# Altium footprint library WR-USB.PcbLib: 52 footprints (part 1 of 4)
Each footprint in its own frame and in the unit in brackets; x right, y up, seen from the top. Pads: shape width x height; smd on the part's side, far side on the other; paste and mask are expansions set on the pad; w line width, h text height; cw(c..) or ccw(c..) is an arc to the next point about the centre after c.
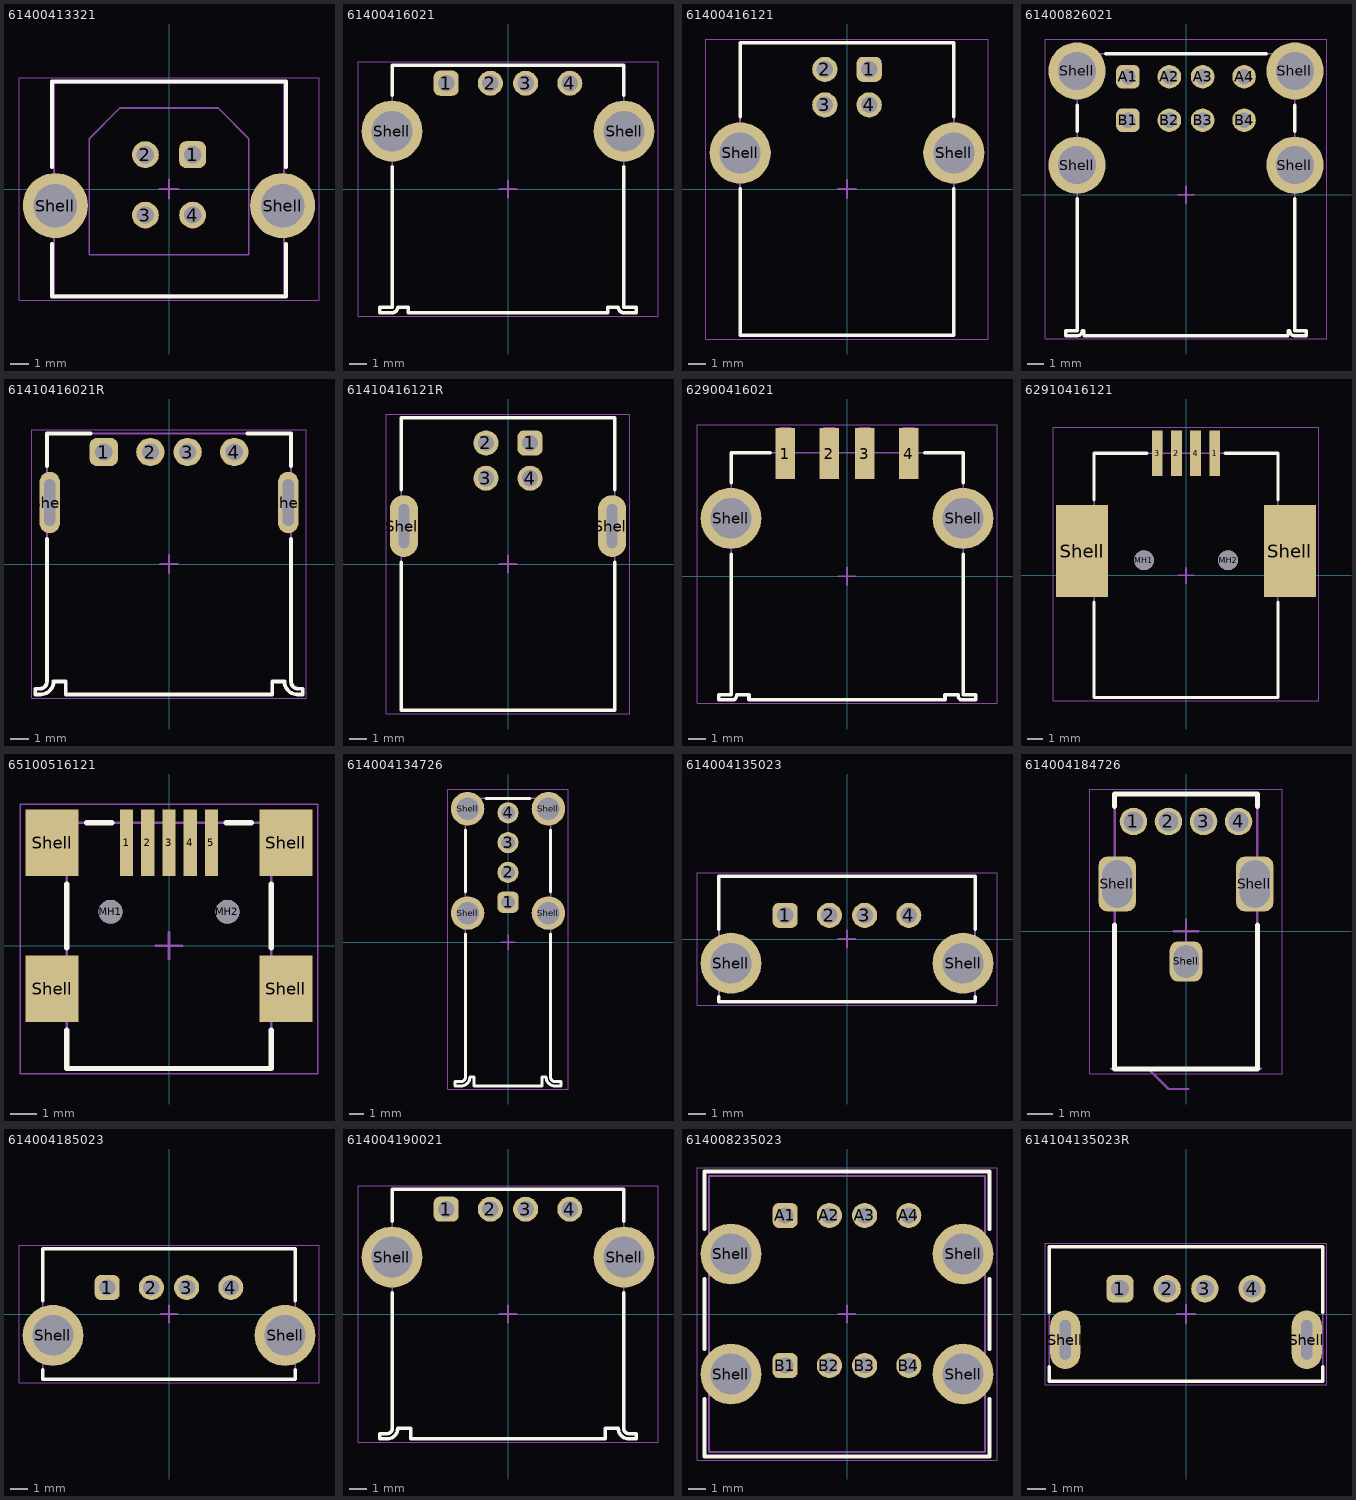
[diagram p0: the footprints below, top view; thin cyan lines are the x and y axes]

## 61400413321 [mm] "USB 2.0 Type B Vertical"
height 16.1
pads (6):
  rrect50% 1.42x1.42 hole 0.92: 1(1.25,1.82)
  round 1.42 hole 0.92: 2(-1.25,1.82) 3(-1.25,-1.38) 4(1.25,-1.38)
  round 3.45 hole 2.3: Shell(-6.02,-0.88) Shell(6.02,-0.88)
Top Overlay:
  lines w0.2: -6.2,-2.91 -6.2,-5.7 6.2,-5.7 6.2,-2.91 ; -6.2,1.15 -6.2,5.7 6.2,5.7 6.2,1.15
Top Assembly:
  lines w0.1: -6.1,-5.6 -6.1,5.6 6.1,5.6 6.1,-5.6 -6.1,-5.6 ; -4.225,-3.48 -4.225,2.67 -2.595,4.3 2.595,4.3 4.225,2.67 4.225,-3.48 -4.225,-3.48
Top Designator:
  text ".Designator" at -3.647,-0.357 h1
Top 3D Body:
  lines w0.1: -6.1,-5.6 -6.1,5.6 6.1,5.6 6.1,-5.6 -6.1,-5.6
Top Courtyard:
  lines w0.05: -7.945,-5.9 7.945,-5.9 7.945,5.9 -7.945,5.9 -7.945,-5.9
Top Component Center:
  lines w0.1: -0.5,0 0.5,0 ; 0,-0.5 0,0.5
3D body "61400413321.stp": height 16.2, standoff -4.12, extent -7.35,-5.6 7.35,5.6

## 61400416021 [mm] "USB 2.0 Type A Horizontal"
height 6.9
pads (6):
  rrect50% 1.42x1.42 hole 0.92: 1(-3.5,5.99)
  round 1.42 hole 0.92: 2(-1,5.99) 3(1,5.99) 4(3.5,5.99)
  round 3.45 hole 2.3: Shell(-6.57,3.28) Shell(6.57,3.28)
Top Overlay:
  lines w0.2: -6.55,1.26 -6.55,-6.7 -7.25,-6.7 -7.25,-7 -6.56,-7 ccw(c-6.55,-6.7) -6.25,-6.7 -5.65,-6.7 -5.65,-7 5.65,-7 5.65,-6.7 6.25,-6.7 ccw(c6.55,-6.7) 6.56,-7 7.25,-7 7.25,-6.7 6.55,-6.7 6.55,1.26 ; -6.55,5.3 -6.55,7 6.55,7 6.55,5.3
Assembly Notes:
  lines w0.1: -5.65,-7 5.65,-7
  text "PCB Edge" at -2.2,-8.22 h0.81
Top Assembly:
  lines w0.1: -7.25,-7 -7.25,-6.7 -6.55,-6.7 -6.55,7 6.55,7 6.55,-6.7 7.25,-6.7 7.25,-7 6.56,-7 cw(c6.55,-6.7) 6.25,-6.7 5.65,-6.7 5.65,-7 -5.65,-7 -5.65,-6.7 -6.25,-6.7 cw(c-6.55,-6.7) -6.56,-7 -7.25,-7
Top Designator:
  text ".Designator" at -3.647,-0.357 h1
Top 3D Body:
  lines w0.1: -7.25,-7 -7.25,-6.7 -6.55,-6.7 -6.55,7 6.55,7 6.55,-6.7 7.25,-6.7 7.25,-7 6.56,-7 cw(c6.55,-6.7) 6.25,-6.7 5.65,-6.7 5.65,-7 -5.65,-7 -5.65,-6.7 -6.25,-6.7 cw(c-6.55,-6.7) -6.56,-7 -7.25,-7
Top Courtyard:
  lines w0.05: -8.495,-7.2 8.495,-7.2 8.495,7.2 -8.495,7.2 -8.495,-7.2
Top Component Center:
  lines w0.1: -0.5,0 0.5,0 ; 0,-0.5 0,0.5
3D body "61400416021.stp": height 7.63, standoff -4.06, extent -7.999,-7 7.999,7

## 61400416121 [mm] "USB 2.0 Type B Horizontal"
height 11.05
pads (6):
  rrect50% 1.42x1.42 hole 0.92: 1(1.25,6.74)
  round 1.42 hole 0.92: 2(-1.25,6.74) 3(-1.25,4.74) 4(1.25,4.74)
  round 3.45 hole 2.3: Shell(-6.02,2.03) Shell(6.02,2.03)
Top Overlay:
  lines w0.2: -6.02,0 -6.02,-8.25 6.02,-8.25 6.02,0 ; -6.02,4.06 -6.02,8.25 6.02,8.25 6.02,4.06
Top Assembly:
  lines w0.1: -6.02,-8.25 6.02,-8.25 6.02,8.25 -6.02,8.25 -6.02,-8.25
Top Designator:
  text ".Designator" at -3.647,-0.357 h1
Top 3D Body:
  lines w0.1: -6.02,-8.25 6.02,-8.25 6.02,8.25 -6.02,8.25 -6.02,-8.25
Top Courtyard:
  lines w0.05: -7.945,-8.45 -7.945,8.45 7.945,8.45 7.945,-8.45 -7.945,-8.45
Top Component Center:
  lines w0.1: -0.5,0 0.5,0 ; 0,-0.5 0,0.5
3D body "61400416121.stp": height 11.15, standoff -3.71, extent -7.484,-8.25 7.484,8.25

## 61400826021 [mm] "USB 2.0 Type A Horizontal Dual Stacked"
height 15.34
pads (12):
  rrect50% 1.42x1.42 hole 0.92: A1(-3.5,7.11) B1(-3.5,4.49)
  round 1.42 hole 0.92: A2(-1,7.11) A3(1,7.11) A4(3.5,7.11) B2(-1,4.49) B3(1,4.49) B4(3.5,4.49)
  round 3.45 hole 2.3: Shell(-6.57,1.78) Shell(-6.57,7.46) Shell(6.57,1.78) Shell(6.57,7.46)
Top Overlay:
  lines w0.2: -6.55,-0.25 -6.55,-8.2 -7.25,-8.2 -7.25,-8.5 -6.56,-8.5 ccw(c-6.55,-8.2) -6.25,-8.2 -6.15,-8.2 -6.15,-8.5 6.15,-8.5 6.15,-8.2 6.25,-8.2 ccw(c6.55,-8.2) 6.56,-8.5 7.25,-8.5 7.25,-8.2 6.55,-8.2 6.55,-0.25 ; -6.55,3.81 -6.55,5.4 ; -4.85,8.5 4.85,8.5 ; 6.55,3.81 6.55,5.4
Top Assembly:
  lines w0.1: -7.25,-8.5 -7.25,-8.2 -6.55,-8.2 -6.55,8.5 6.55,8.5 6.55,-8.2 7.25,-8.2 7.25,-8.5 6.56,-8.5 cw(c6.55,-8.2) 6.25,-8.2 6.15,-8.2 6.15,-8.5 -6.15,-8.5 -6.15,-8.2 -6.25,-8.2 cw(c-6.55,-8.2) -6.56,-8.5 -7.25,-8.5
Top Designator:
  text ".Designator" at -3.647,-0.357 h1
Top 3D Body:
  lines w0.1: -7.25,-8.5 -7.25,-8.2 -6.55,-8.2 -6.55,8.5 6.55,8.5 6.55,-8.2 7.25,-8.2 7.25,-8.5 6.56,-8.5 cw(c6.55,-8.2) 6.25,-8.2 6.15,-8.2 6.15,-8.5 -6.15,-8.5 -6.15,-8.2 -6.25,-8.2 cw(c-6.55,-8.2) -6.56,-8.5 -7.25,-8.5
Top Courtyard:
  lines w0.05: -8.495,-8.7 8.495,-8.7 8.495,9.385 -8.495,9.385 -8.495,-8.7
Top Component Center:
  lines w0.1: -0.5,0 0.5,0 ; 0,-0.5 0,0.5
3D body "61400826021.stp": height 15.99, standoff -3.86, extent -7.913,-8.5 7.913,8.65

## 61410416021R [mm] "USB Type A Horizontal THR"
height 7.25
pads (6):
  rrect50% 1.52x1.52 hole 0.92: 1(-3.5,6.01)
  round 1.52 hole 0.92: 2(-1,6.01) 3(1,6.01) 4(3.5,6.01)
  oval 1.1x3.3 hole 0.6 slot 2.5 at 90 deg: Shell(-6.4,3.3) Shell(6.4,3.3)
Top Overlay:
  lines w0.2: -6.972,-6.7 -7.175,-6.7 -7.175,-7 -6.895,-7 ccw(c-6.895,-6.3) -6.195,-6.3 -5.545,-6.3 -5.545,-7 5.545,-7 5.545,-6.3 6.195,-6.3 ccw(c6.895,-6.3) 6.895,-7 7.175,-7 7.175,-6.7 6.972,-6.7 ; -6.972,-6.699 ccw(c-6.95,-6.3) -6.55,-6.3 -6.55,1.35 ; -6.55,5.25 -6.55,7 -4.2,7 ; 4.2,7 6.55,7 6.55,5.25 ; 6.55,1.35 6.55,-6.3 ccw(c6.95,-6.3) 6.972,-6.699
Top Assembly:
  lines w0.1: -6.972,-6.7 -7.175,-6.7 -7.175,-7 -6.895,-7 ccw(c-6.895,-6.3) -6.195,-6.3 -5.545,-6.3 -5.545,-7 5.545,-7 5.545,-6.3 6.195,-6.3 ccw(c6.895,-6.3) 6.895,-7 7.175,-7 7.175,-6.7 6.972,-6.7 ; -6.972,-6.699 ccw(c-6.95,-6.3) -6.55,-6.3 -6.55,7 6.55,7 6.55,-6.3 ccw(c6.95,-6.3) 6.972,-6.699
Top Designator:
  text ".Designator" at -3.647,-0.357 h1
Top 3D Body:
  lines w0.1: -6.972,-6.7 -7.175,-6.7 -7.175,-7 -6.895,-7 ccw(c-6.895,-6.3) -6.195,-6.3 -5.545,-6.3 -5.545,-7 5.545,-7 5.545,-6.3 6.195,-6.3 ccw(c6.895,-6.3) 6.895,-7 7.175,-7 7.175,-6.7 6.972,-6.7 ; -6.972,-6.699 ccw(c-6.95,-6.3) -6.55,-6.3 -6.55,7 6.55,7 6.55,-6.3 ccw(c6.95,-6.3) 6.972,-6.699
Top Courtyard:
  lines w0.05: -7.375,-7.2 7.375,-7.2 7.375,7.2 -7.375,7.2 -7.375,-7.2
Top Component Center:
  lines w0.1: -0.5,0 0.5,0 ; 0,-0.5 0,0.5
3D body "61410416021R.stp": height 7.55, standoff -2.14, extent -7.225,-7 7.225,7

## 61410416121R [mm] "USB Type B Horizontal THR"
height 11
pads (6):
  rrect50% 1.42x1.42 hole 0.92: 1(1.25,6.86)
  round 1.42 hole 0.92: 2(-1.25,6.86) 3(-1.25,4.86) 4(1.25,4.86)
  oval 1.6x3.5 hole 0.6 slot 2.5 at 90 deg: Shell(-5.9,2.15) Shell(5.9,2.15)
Top Overlay:
  lines w0.2: -6.05,0.1 -6.05,-8.3 6.05,-8.3 6.05,0.1 ; -6.05,4.2 -6.05,8.3 6.05,8.3 6.05,4.2
Top Assembly:
  lines w0.1: -6.05,-8.3 6.05,-8.3 6.05,8.3 -6.05,8.3 -6.05,-8.3
Top Designator:
  text ".Designator" at -3.647,-0.357 h1
Top 3D Body:
  lines w0.1: -6.05,-8.3 6.05,-8.3 6.05,8.3 -6.05,8.3 -6.05,-8.3
Top Courtyard:
  lines w0.05: -6.9,-8.5 -6.9,8.5 6.9,8.5 6.9,-8.5 -6.9,-8.5
Top Component Center:
  lines w0.1: -0.5,0 0.5,0 ; 0,-0.5 0,0.5
3D body "61410416121R.stp": height 11.1, standoff -2.1, extent -6.2,-8.3 6.2,8.3

## 62900416021 [mm] "USB 2.0 SMT Type A Horizontal"
height 7.12
pads (6):
  rect 1.12x2.88 smd: 1(-3.5,6.95) 2(-1,6.95) 3(1,6.95) 4(3.5,6.95)
  round 3.45 hole 2.3: Shell(-6.57,3.28) Shell(6.57,3.28)
Top Overlay:
  lines w0.2: -6.55,1.26 -6.55,-6.7 -7.25,-6.7 -7.25,-7 -6.39,-7 ; -6.55,5.3 -6.55,7 -4.35,7 ; -6.388,-7.002 ccw(c-6.65,-6.7) -6.25,-6.7 -5.55,-6.7 -5.55,-7 5.55,-7 5.55,-6.7 6.29,-6.7 ccw(c6.69,-6.7) 6.428,-7.002 ; 4.39,7 6.59,7 6.59,5.3 ; 6.43,-7 7.29,-7 7.29,-6.7 6.59,-6.7 6.59,1.26
Top Assembly:
  lines w0.1: -6.39,-7 -7.25,-7 -7.25,-6.7 -6.55,-6.7 -6.55,7 6.59,7 6.59,-6.7 7.29,-6.7 7.29,-7 6.43,-7 ; -6.388,-7.002 ccw(c-6.65,-6.7) -6.25,-6.7 -5.55,-6.7 -5.55,-7 5.55,-7 5.55,-6.7 6.29,-6.7 ccw(c6.69,-6.7) 6.428,-7.002 ; -3.8,7 -3.8,8.4 -3.2,8.4 -3.2,7 ; -1.3,7 -1.3,8.4 -0.7,8.4 -0.7,7 ; 0.7,7 0.7,8.4 1.3,8.4 1.3,7 ; 3.2,7 3.2,8.4 3.8,8.4 3.8,7
Top Designator:
  text ".Designator" at -3.647,-0.357 h1
Top 3D Body:
  lines w0.1: -6.39,-7 -7.25,-7 -7.25,-6.7 -6.55,-6.7 -6.55,7 6.59,7 6.59,-6.7 7.29,-6.7 7.29,-7 6.43,-7 ; -6.388,-7.002 ccw(c-6.65,-6.7) -6.25,-6.7 -5.55,-6.7 -5.55,-7 5.55,-7 5.55,-6.7 6.29,-6.7 ccw(c6.69,-6.7) 6.428,-7.002 ; -3.8,7 -3.8,8.4 -3.2,8.4 -3.2,7 ; -1.3,7 -1.3,8.4 -0.7,8.4 -0.7,7 ; 0.7,7 0.7,8.4 1.3,8.4 1.3,7 ; 3.2,7 3.2,8.4 3.8,8.4 3.8,7
Top Courtyard:
  lines w0.05: -8.495,-7.2 8.495,-7.2 8.495,8.59 -8.495,8.59 -8.495,-7.2
Top Component Center:
  lines w0.1: -0.5,0 0.5,0 ; 0,-0.5 0,0.5
3D body "62900416021.stp": height 7.81, standoff -3.89, extent -7.81,-7 7.81,8.405

## 62910416121 [mm] "USB 2.0 Type B SMT Horizontal"
height 11.5
pads (8):
  rect 0.7x3 smd: 1(1.875,8) 2(-0.625,8) 3(-1.875,8) 4(0.625,8)
  round 1.3 hole 1.3 unplated: MH1(-2.75,1) MH2(2.75,1)
  rect 3.4x6.04 smd: Shell(-6.8,1.6) Shell(6.8,1.6)
Top Overlay:
  lines w0.2: -6.02,-1.75 -6.02,-8 6.02,-8 6.02,-1.75 ; -6.02,4.95 -6.02,8 -2.55,8 ; 2.55,8 6.02,8 6.02,4.95
Top Assembly:
  lines w0.1: -6.02,-0.75 -8.1,-0.75 -8.1,3.95 -6.02,3.95 ; -2.175,8 -2.175,9.39 -1.575,9.39 -1.575,8 ; -0.925,8 -0.925,9.39 -0.325,9.39 -0.325,8 ; 0.325,8 0.325,9.39 0.925,9.39 0.925,8 ; 1.575,8 1.575,9.39 2.175,9.39 2.175,8 ; 6,8 -6.02,8 -6.02,-8 6.02,-8 6.02,8 ; 6.02,-0.75 8.1,-0.75 8.1,3.95 6.02,3.95
Top Designator:
  text ".Designator" at -3.647,-0.357 h1
Top 3D Body:
  lines w0.1: -6.02,-0.75 -8.1,-0.75 -8.1,3.95 -6.02,3.95 ; -2.175,8 -2.175,9.39 -1.575,9.39 -1.575,8 ; -0.925,8 -0.925,9.39 -0.325,9.39 -0.325,8 ; 0.325,8 0.325,9.39 0.925,9.39 0.925,8 ; 1.575,8 1.575,9.39 2.175,9.39 2.175,8 ; 6,8 -6.02,8 -6.02,-8 6.02,-8 6.02,8 ; 6.02,-0.75 8.1,-0.75 8.1,3.95 6.02,3.95
Top Courtyard:
  lines w0.05: -8.7,-8.2 -8.7,9.7 8.7,9.7 8.7,-8.2 -8.7,-8.2
Top Component Center:
  lines w0.1: -0.5,0 0.5,0 ; 0,-0.5 0,0.5
3D body "62910416121.stp": height 11.16, standoff -0.81, extent -8.1,-8 8.1,9.388

## 65100516121 [mm] "Mini USB 2.0 Type B SMT Horizontal 5 Contacts"
height 3.9
pads (11):
  rect 0.5x2.5 smd: 1(-1.6,3.875) 2(-0.8,3.875) 3(0,3.875) 4(0.8,3.875) 5(1.6,3.875)
  round 0.9 hole 0.9 unplated: MH1(-2.2,1.275) MH2(2.2,1.275)
  rect 2x2.5 smd: Shell(-4.4,-1.625) Shell(-4.4,3.875) Shell(4.4,-1.625) Shell(4.4,3.875)
Top Overlay:
  lines w0.2: -3.85,-3.175 -3.85,-4.625 3.85,-4.625 3.85,-3.175 ; -3.85,-0.075 -3.85,2.325 ; -3.1,4.625 -2.15,4.625 ; 2.15,4.625 3.1,4.625 ; 3.85,-0.075 3.85,2.325
Top Assembly:
  lines w0.1: -3.85,-4.625 -3.85,4.625 3.85,4.625 3.85,-4.625 -3.85,-4.625
Top Designator:
  text ".Designator" at -3.647,-0.357 h1
Top 3D Body:
  lines w0.1: -3.85,-4.625 -3.85,4.625 3.85,4.625 3.85,-4.625 -3.85,-4.625
Top Courtyard:
  lines w0.05: -5.6,-4.825 -5.6,5.325 5.6,5.325 5.6,-4.825 -5.6,-4.825
Top Component Center:
  lines w0.1: -0.5,0 0.5,0 ; 0,-0.5 0,0.5
3D body "65100516121.stp": height 3.92, standoff -0.98, extent -4.8,-4.625 4.8,4.625

## 614004134726 [mm] "USB 2.0 Type A Up Right"
height 14.5
pads (8):
  rrect50% 1.42x1.42 hole 0.92: 1(0,2.68)
  round 1.42 hole 0.92: 2(0,4.68) 3(0,6.68) 4(0,8.68)
  round 2.25 hole 1.5: Shell(-2.71,1.95) Shell(-2.71,8.95) Shell(2.71,1.95) Shell(2.71,8.95)
Top Overlay:
  lines w0.2: -2.86,0.54 -2.86,-9.06 cw(c-3.15,-9.06) -3.15,-9.35 -3.55,-9.35 -3.55,-9.65 -3.15,-9.65 ccw(c-3.15,-9.06) -2.56,-9.06 -2.27,-9.06 -2.27,-9.65 2.27,-9.65 2.27,-9.06 2.56,-9.06 ccw(c3.15,-9.06) 3.15,-9.65 3.55,-9.65 3.55,-9.35 3.15,-9.35 cw(c3.15,-9.06) 2.86,-9.06 2.86,0.54 ; -2.86,3.36 -2.86,7.54 ; -1.46,9.65 1.49,9.65 ; 2.86,3.36 2.86,7.54
Top Assembly:
  lines w0.1: -3.55,-9.65 -3.15,-9.65 ccw(c-3.15,-9.06) -2.56,-9.06 -2.27,-9.06 -2.27,-9.65 2.27,-9.65 2.27,-9.06 2.56,-9.06 ccw(c3.15,-9.06) 3.15,-9.65 3.55,-9.65 3.55,-9.35 3.15,-9.35 cw(c3.15,-9.06) 2.86,-9.06 2.86,9.65 -2.86,9.65 -2.86,-9.06 cw(c-3.15,-9.06) -3.15,-9.35 -3.55,-9.35 -3.55,-9.65
Top Designator:
  text ".Designator" at -3.647,-0.357 h1
Top 3D Body:
  lines w0.1: -3.55,-9.65 -3.55,-9.35 -3.15,-9.35 ccw(c-3.15,-9.06) -2.86,-9.06 -2.86,9.65 2.86,9.65 2.86,-9.06 ccw(c3.15,-9.06) 3.15,-9.35 3.55,-9.35 3.55,-9.65 3.15,-9.65 cw(c3.15,-9.06) 2.56,-9.06 2.27,-9.06 2.27,-9.65 -2.27,-9.65 -2.27,-9.06 -2.56,-9.06 cw(c-3.15,-9.06) -3.15,-9.65 -3.55,-9.65
Top Courtyard:
  lines w0.05: -4.035,-9.85 4.035,-9.85 4.035,10.275 -4.035,10.275 -4.035,-9.85
Top Component Center:
  lines w0.1: -0.5,0 0.5,0 ; 0,-0.5 0,0.5
3D body "614004134726.stp": height 14.49, standoff -3.82, extent -3.55,-9.65 3.55,9.65

## 614004135023 [mm] "USB 2.0 Type A Vertical"
height 15
pads (6):
  rrect50% 1.42x1.42 hole 0.92: 1(-3.5,1.34)
  round 1.42 hole 0.92: 2(-1,1.34) 3(1,1.34) 4(3.5,1.34)
  round 3.45 hole 2.3: Shell(-6.57,-1.37) Shell(6.57,-1.37)
Top Overlay:
  lines w0.2: -7.25,-3.26 -7.25,-3.56 7.25,-3.56 7.25,-3.26 ; -7.25,0.54 -7.25,3.56 7.25,3.56 7.25,0.54
Top Assembly:
  lines w0.1: -7.25,-3.56 7.25,-3.56 7.25,3.56 -7.25,3.56 -7.25,-3.56
Top Designator:
  text ".Designator" at -3.647,-0.357 h1
Top 3D Body:
  lines w0.1: -7.25,-3.56 7.25,-3.56 7.25,3.56 -7.25,3.56 -7.25,-3.56
Top Courtyard:
  lines w0.05: -8.495,-3.76 -8.495,3.76 8.495,3.76 8.495,-3.76 -8.495,-3.76
Top Component Center:
  lines w0.1: -0.5,0 0.5,0 ; 0,-0.5 0,0.5
3D body "614004135023.stp": height 15.02, standoff -4.28, extent -7.999,-3.56 7.999,3.56

## 614004184726 [mm] "USB 2.0 Type A Up Right THT"
height 14.2
pads (7):
  round 1.1 hole 0.8: 1(-2.1,4.4) 2(-0.7,4.4) 3(0.7,4.4) 4(2.1,4.4)
  rrect50% 1.5x2.2 hole 1.2 slot 1.9 at 90 deg: Shell(-2.75,1.9) Shell(2.75,1.9)
  rrect50% 1.3x1.6 hole 1 slot 1.3 at 90 deg: Shell(0,-1.2)
Top Overlay:
  lines w0.2: -2.86,0.25 -2.86,-5.5 2.86,-5.5 2.86,0.25 ; -2.86,5 -2.86,5.5 2.86,5.5 2.86,5
Assembly Notes:
  lines w0.1: -3,-5.5 3,-5.5 ; -1.5,-5.5 -0.7,-6.3 0.1,-6.3
  text "PCB End" at 0.4,-6.65 h0.7
Top Assembly:
  lines w0.1: -2.86,-5.5 -2.86,5.5 2.86,5.5 2.86,-5.5 -2.86,-5.5
Top Designator:
  text ".Designator" at -3.647,-0.357 h1
Top 3D Body:
  lines w0.1: -2.86,-5.5 -2.86,5.5 2.86,5.5 2.86,-5.5 -2.86,-5.5
Top Courtyard:
  lines w0.05: -3.85,-5.7 -3.85,5.7 3.85,5.7 3.85,-5.7 -3.85,-5.7
Top Component Center:
  lines w0.1: -0.5,0 0.5,0 ; 0,-0.5 0,0.5
3D body "614004184726.stp": height 14.3, standoff -2.74, extent -3.559,-5.5 3.559,5.5

## 614004185023 [mm] "USB 2.0 Type A Vertical Short Type THT"
height 10
pads (6):
  rrect50% 1.42x1.42 hole 0.92: 1(-3.5,1.5)
  round 1.42 hole 0.92: 2(-1,1.5) 3(1,1.5) 4(3.5,1.5)
  round 3.45 hole 2.3: Shell(-6.57,-1.21) Shell(6.57,-1.21)
Top Overlay:
  lines w0.2: -7.15,-3.15 -7.15,-3.7 7.15,-3.7 7.15,-3.15 ; -7.15,0.75 -7.15,3.7 7.15,3.7 7.15,0.75
Top Assembly:
  lines w0.1: -7.15,-3.7 -7.15,3.7 7.15,3.7 7.15,-3.7 -7.15,-3.7
Top Designator:
  text ".Designator" at -3.647,-0.357 h1
Top 3D Body:
  lines w0.1: -7.15,-3.7 -7.15,3.7 7.15,3.7 7.15,-3.7 -7.15,-3.7
Top Courtyard:
  lines w0.05: -8.495,-3.9 8.495,-3.9 8.495,3.9 -8.495,3.9 -8.495,-3.9
Top Component Center:
  lines w0.1: -0.5,0 0.5,0 ; 0,-0.5 0,0.5
3D body "614004185023.stp": height 10.05, standoff -2.95, extent -7.15,-3.7 7.15,3.7

## 614004190021 [mm] "USB 2.0 Type A Horizontal THT"
height 6.9
pads (6):
  rrect50% 1.42x1.42 hole 0.92: 1(-3.5,5.935)
  round 1.42 hole 0.92: 2(-1,5.935) 3(1,5.935) 4(3.5,5.935)
  round 3.45 hole 2.3: Shell(-6.57,3.225) Shell(6.57,3.225)
Top Overlay:
  lines w0.2: -6.55,1.2 -6.55,-6.475 cw(c-6.85,-6.475) -6.85,-6.775 -7.25,-6.775 -7.25,-7.075 -6.85,-7.075 ccw(c-6.85,-6.475) -6.25,-6.475 -5.5,-6.475 -5.5,-7.075 5.5,-7.075 5.5,-6.475 6.25,-6.475 ccw(c6.85,-6.475) 6.85,-7.075 7.25,-7.075 7.25,-6.775 6.85,-6.775 cw(c6.85,-6.475) 6.55,-6.475 6.55,1.2 ; -6.55,5.25 -6.55,7.075 6.55,7.075 6.55,5.25
Top Assembly:
  lines w0.1: -7.25,-7.075 -7.25,-6.775 -6.85,-6.775 ccw(c-6.85,-6.475) -6.55,-6.475 -6.55,7.075 6.55,7.075 6.55,-6.475 ccw(c6.85,-6.475) 6.85,-6.775 7.25,-6.775 7.25,-7.075 6.85,-7.075 cw(c6.85,-6.475) 6.25,-6.475 5.5,-6.475 5.5,-7.075 -5.5,-7.075 -5.5,-6.475 -6.25,-6.475 cw(c-6.85,-6.475) -6.85,-7.075 -7.25,-7.075
Top Designator:
  text ".Designator" at -3.647,-0.357 h1
Top 3D Body:
  lines w0.1: -7.25,-7.075 -6.85,-7.075 ccw(c-6.85,-6.475) -6.25,-6.475 -5.5,-6.475 -5.5,-7.075 5.5,-7.075 5.5,-6.475 6.25,-6.475 ccw(c6.85,-6.475) 6.85,-7.075 7.25,-7.075 7.25,-6.775 6.85,-6.775 cw(c6.85,-6.475) 6.55,-6.475 6.55,7.075 -6.55,7.075 -6.55,-6.475 cw(c-6.85,-6.475) -6.85,-6.775 -7.25,-6.775 -7.25,-7.075
Top Courtyard:
  lines w0.05: -8.495,-7.275 8.495,-7.275 8.495,7.275 -8.495,7.275 -8.495,-7.275
Top Component Center:
  lines w0.1: -0.5,0 0.5,0 ; 0,-0.5 0,0.5
3D body "614004190021.stp": height 7.8, standoff -3.6, extent -7.85,-7.075 7.85,7.075

## 614008235023 [mm] "USB 2.0 Type A Vertical Dual"
height 16.7
pads (12):
  rrect50% 1.42x1.42 hole 0.92: A1(-3.5,5.58) B1(-3.5,-2.92)
  round 1.42 hole 0.92: A2(-1,5.58) A3(1,5.58) A4(3.5,5.58) B2(-1,-2.92) B3(1,-2.92) B4(3.5,-2.92)
  round 3.45 hole 2.3: Shell(-6.57,-3.4) Shell(-6.57,3.4) Shell(6.57,-3.4) Shell(6.57,3.4)
Top Overlay:
  lines w0.2: -8.07,-4.8 -8.07,-8.07 8.07,-8.07 8.07,-4.8 ; -8.07,-2 -8.07,2 ; -8.07,4.8 -8.07,8.07 8.07,8.07 8.07,4.8 ; 8.07,-2 8.07,2
Top Assembly:
  lines w0.1: -7.82,-7.82 7.82,-7.82 7.82,7.82 -7.82,7.82 -7.82,-7.82
Top Designator:
  text ".Designator" at -3.647,-0.357 h1
Top 3D Body:
  lines w0.1: -7.82,-7.82 7.82,-7.82 7.82,7.82 -7.82,7.82 -7.82,-7.82
Top Courtyard:
  lines w0.05: -8.495,-8.27 8.495,-8.27 8.495,8.27 -8.495,8.27 -8.495,-8.27
Top Component Center:
  lines w0.1: -0.5,0 0.5,0 ; 0,-0.5 0,0.5
3D body "614008235023.stp": height 17.58, standoff -3.47, extent -7.889,-7.82 7.889,7.82

## 614104135023R [mm] "USB Type A Vertical THR"
height 14.9
pads (6):
  rrect50% 1.45x1.45 hole 0.95: 1(-3.5,1.34)
  round 1.45 hole 0.95: 2(-1,1.34) 3(1,1.34) 4(3.5,1.34)
  oval 1.6x3.1 hole 0.6 slot 2.1 at 90 deg: Shell(-6.4,-1.37) Shell(6.4,-1.37)
Top Overlay:
  lines w0.2: -7.25,-2.81 -7.25,-3.56 7.25,-3.56 7.25,-2.81 ; -7.25,0.09 -7.25,3.56 7.25,3.56 7.25,0.09
Top Assembly:
  lines w0.1: -7.25,-3.56 -7.25,3.56 7.25,3.56 7.25,-3.56 -7.25,-3.56
Top Designator:
  text ".Designator" at -3.647,-0.357 h1
Top 3D Body:
  lines w0.1: -7.25,-3.56 -7.25,3.56 7.25,3.56 7.25,-3.56 -7.25,-3.56
Top Courtyard:
  lines w0.05: -7.45,-3.76 -7.45,3.76 7.45,3.76 7.45,-3.76 -7.45,-3.76
Top Component Center:
  lines w0.1: -0.5,0 0.5,0 ; 0,-0.5 0,0.5
3D body "614104135023R.stp": height 14.93, standoff -2.16, extent -7.25,-3.56 7.25,3.56